# Altium footprint library IHLP-4040DZ.PcbLib: 1 footprints
Each footprint in its own frame and in the unit in brackets; x right, y up, seen from the top. Pads: shape width x height; smd on the part's side, far side on the other; paste and mask are expansions set on the pad; w line width, h text height; cw(c..) or ccw(c..) is an arc to the next point about the centre after c.
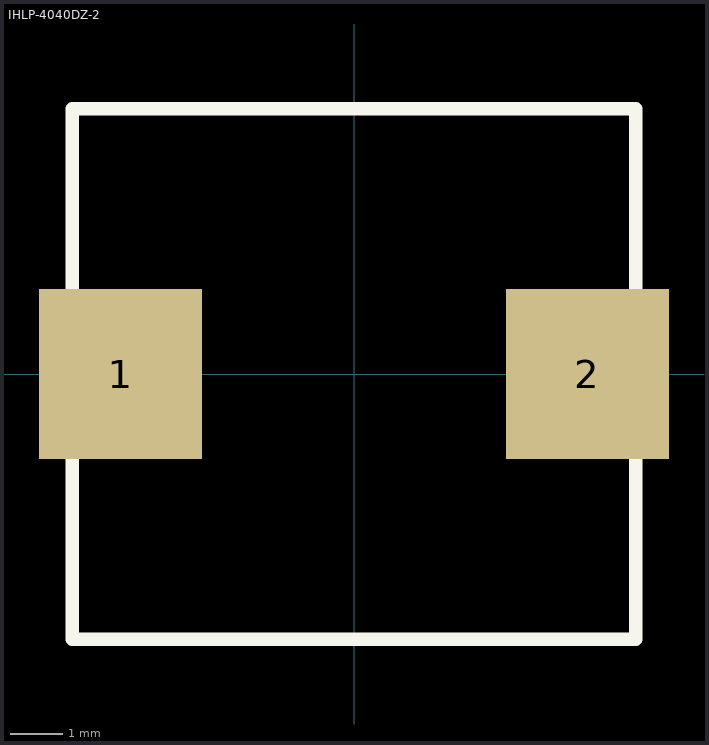
[diagram p0: the footprint, top view; thin cyan lines are the x and y axes]

## IHLP-4040DZ-2 [mm] "1.8 µH and above"
height 4
pads (2):
  rect 3.124x3.251 smd: 1(-4.47,0) 2(4.47,0)
Top Overlay:
  lines w0.254: -5.397,-5.08 -5.397,5.08 5.397,5.08 5.397,-5.08 -5.397,-5.08
3D body "IHLP_SMD_4040_10uH.stp": height 3.83, standoff -0.05, extent -5.325,-5.058 5.297,5.158